# EAGLE library part MPU6050TEST (library cmmc_lbr1)
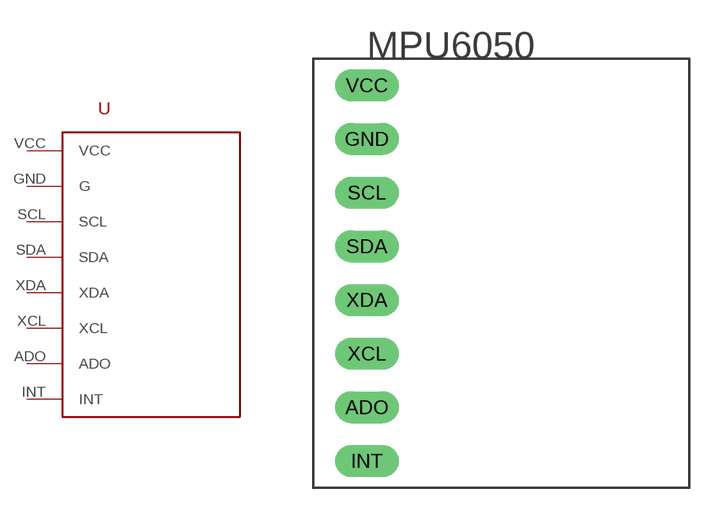
[diagram p3: symbol with the pads of MPU6050TEST; footprint MPU6050TEST]

Designator prefix -

## MPU6050TEST  [MPU6050TEST]
ADO  ADO
GND  G
INT  INT
SCL  SCL
SDA  SDA
VCC  VCC
XCL  XCL
XDA  XDA

## Footprint MPU6050TEST (pad centres in mm)
drill 1 long: ADO -3.81,-11.43; GND -3.81,1.27; INT -3.81,-13.97; SCL -3.81,-1.27; SDA -3.81,-3.81; VCC -3.81,3.81; XCL -3.81,-8.89; XDA -3.81,-6.35